# EAGLE library part 61000813321 (library Board-to-Board (rev18a))
WR-PHD 2.54mm SMT Socket Header, 8 Pins=>Code : CON_BTB_SHD_2.54_1_SMT_61000813321 <http://katalog.we-online.de/media/images/eican/Con_BTB_SHD_2.54_1_SMT_6100xx11921_pf2.jpg> Details see: http://katalog.we-online.de/en/em/PHD_2_54_SMT_SOCKET_HEADER_6100XXXXX21 Created 2014-05-30, Karrer Zheng 2014 (C) Würth Elektronik
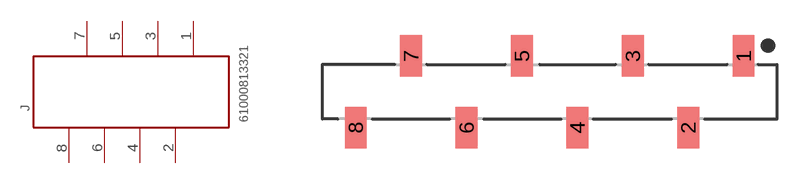
[diagram p194: symbol with the pads of 61000813321; footprint 61000813321]

Designator prefix J

## 61000813321  [61000813321]
1  8  pas
2  7  pas
3  6  pas
4  5  pas
5  4  pas
6  3  pas
7  2  pas
8  1  pas

## Footprint 61000813321 (pad centres in mm)
WR-PHD 2.54mm SMT Socket Header, 8 Pins
smd 1 x 1.91: 1 8.89,1.645; 2 6.35,-1.645; 3 3.81,1.645; 4 1.27,-1.645; 5 -1.27,1.645; 6 -3.81,-1.645; 7 -6.35,1.645; 8 -8.89,-1.645